# EAGLE library part MAX3223 (library 000001)
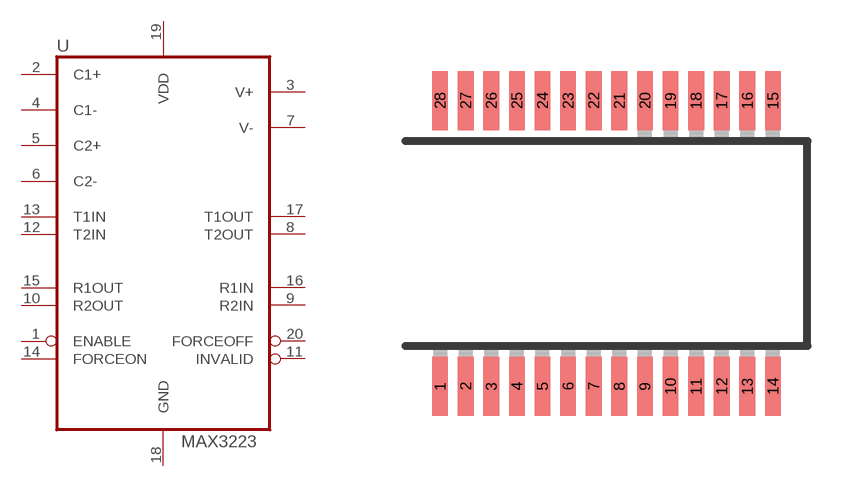
[diagram p47: symbol with the pads of SSOP20; footprint SSOP20]

Designator prefix -

## MAX3223EAP  [SSOP20]
1  ENABLE
2  C1+
3  V+
4  C1-
5  C2+
6  C2-
7  V-
8  T2OUT  out
9  R2IN  in
10  R2OUT  out
11  INVALID  in
12  T2IN  in
13  T1IN  in
14  FORCEON
15  R1OUT  out
16  R1IN  in
17  T1OUT  out
18  GND  pwr
19  VDD  pwr
20  FORCEOFF  in

## Footprint SSOP20 (pad centres in mm)
Shrink Small Outline Package package type SS
smd 0.4 x 1.5: 1 -2.925,-3.625; 2 -2.275,-3.625; 3 -1.625,-3.625; 4 -0.975,-3.625; 5 -0.325,-3.625; 6 0.325,-3.625; 7 0.975,-3.625; 8 1.625,-3.625; 9 2.275,-3.625; 10 2.925,-3.625; 11 3.575,-3.625; 12 4.225,-3.625; 13 4.875,-3.625; 14 5.525,-3.625; 15 5.525,3.625; 16 4.875,3.625; 17 4.225,3.625; 18 3.575,3.625; 19 2.925,3.625; 20 2.275,3.625; 21 1.625,3.625; 22 0.975,3.625; 23 0.325,3.625; 24 -0.325,3.625; 25 -0.975,3.625; 26 -1.625,3.625; 27 -2.275,3.625; 28 -2.925,3.625